# Altium footprint library Custom.PcbLib: 446 footprints (part 12 of 28)
Each footprint in its own frame and in the unit in brackets; x right, y up, seen from the top. Pads: shape width x height; smd on the part's side, far side on the other; paste and mask are expansions set on the pad; w line width, h text height; cw(c..) or ccw(c..) is an arc to the next point about the centre after c.
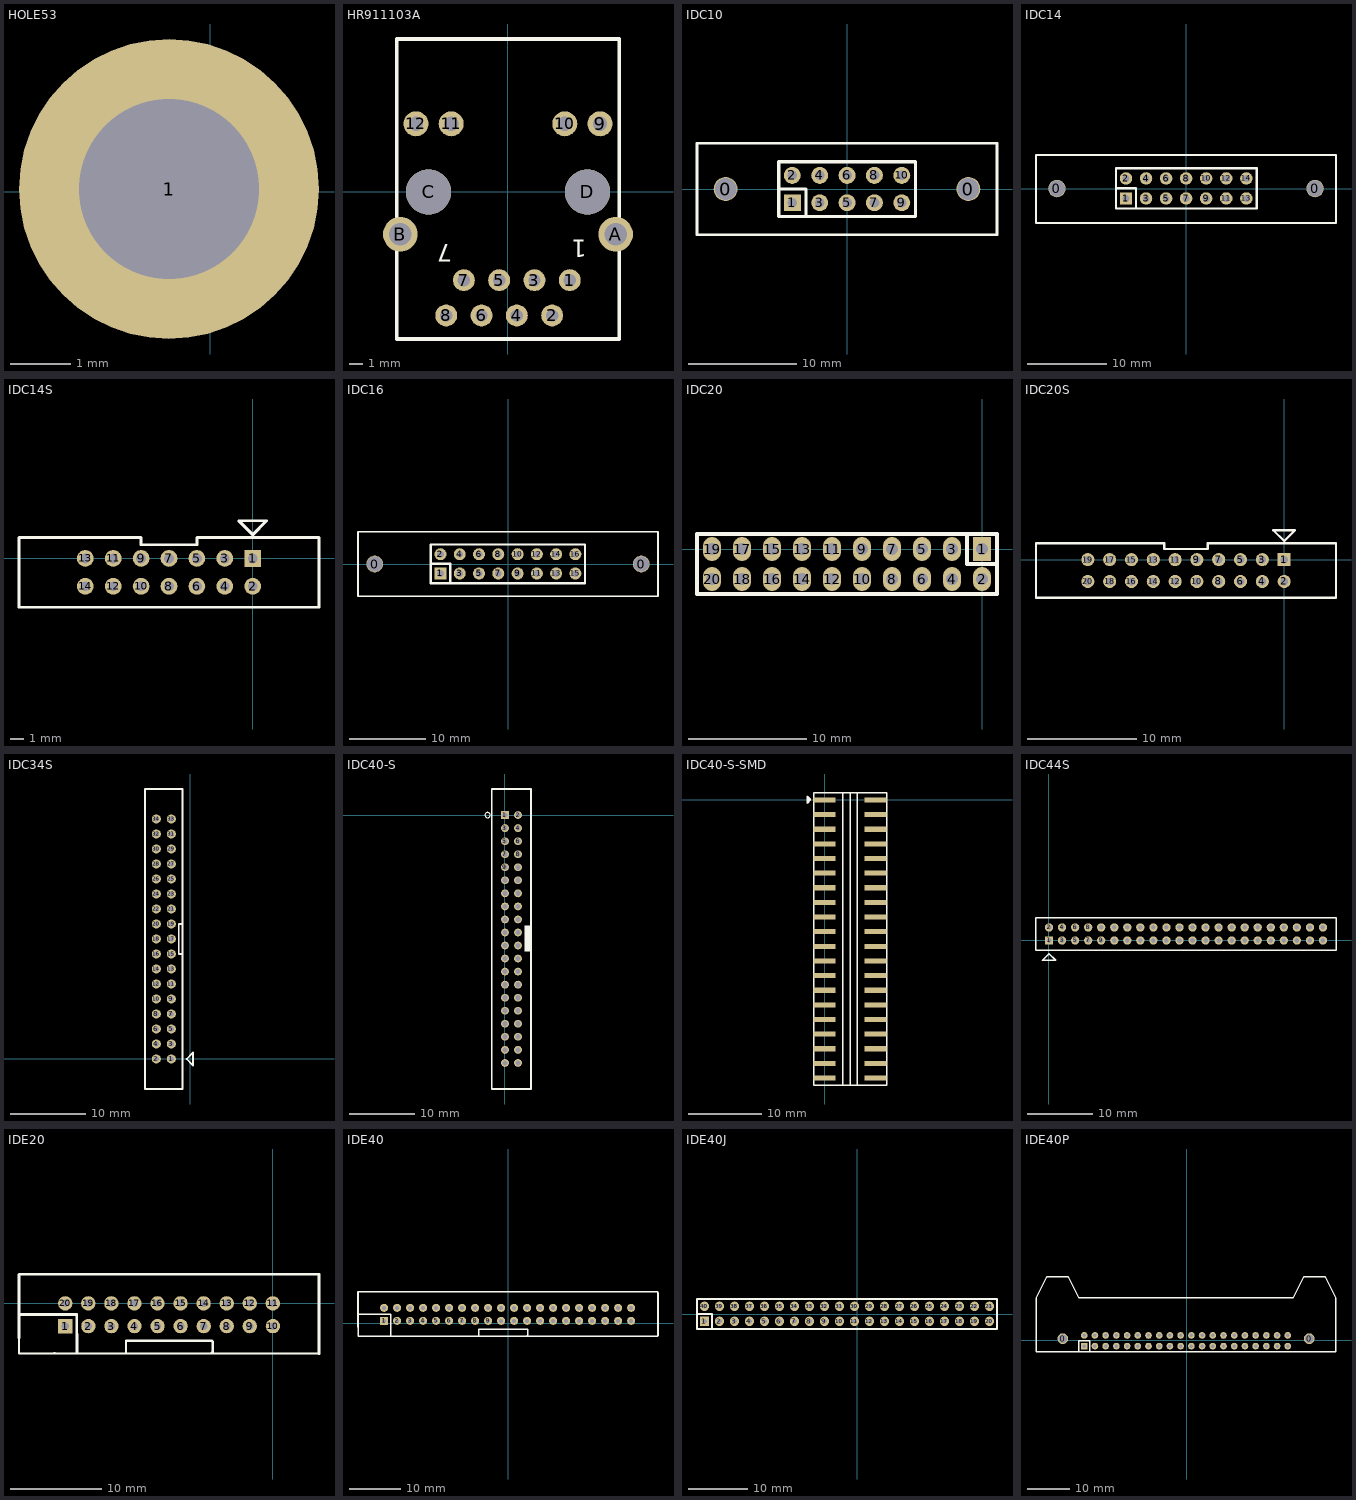
[diagram p11: the footprints below, top view; thin cyan lines are the x and y axes]

## HOLE53 [mm]
pads (1):
  round 5 hole 3: 1(-0.687,0.047)

## HR911103A [mm]
pads (16):
  round 1.575 hole 0.889: 1(4.449,-6.345) 2(3.179,-8.885) 3(1.909,-6.345) 4(0.639,-8.885) 5(-0.631,-6.345) 6(-1.901,-8.885) 7(-3.171,-6.345) 8(-4.441,-8.885)
  round 1.8 hole 1.02: 9(6.629,4.905) 10(4.089,4.905) 11(-4.081,4.905) 12(-6.621,4.905)
  round 2.5 hole 1.63: A(7.749,-3.045) B(-7.741,-3.045)
  round 3.25 hole 3.25: C(-5.711,0.005) D(5.719,0.005)
Top Overlay:
  lines w0.254: -7.996,-10.578 -7.996,11.005 8.004,11.005 8.004,-10.578 -7.996,-10.578
  text "1" at 5.664,-3.446 h1.27
  text "7" at -3.995,-3.778 h1.27

## IDC10 [mm]
pads (12):
  round 2.2 hole 2: 0(-11.27,0) 0(11.27,0)
  rect 1.575x1.575 hole 0.9: 1(-5.075,-1.275)
  round 1.575 hole 0.9: 2(-5.075,1.265) 3(-2.535,-1.275) 4(-2.535,1.265) 5(0.005,-1.275) 6(0.005,1.265) 7(2.545,-1.275) 8(2.545,1.265) 9(5.085,-1.275) 10(5.085,1.265)
Top Overlay:
  lines w0.254: -13.92,-4.25 -13.92,4.25 13.92,4.25 13.92,-4.25 -13.92,-4.25
  lines w0.305: -6.345,-0.005 -3.805,-0.005 -3.805,-2.545 ; -6.345,-2.545 6.355,-2.545 6.355,2.535 -6.345,2.535 -6.345,-2.545

## IDC14 [mm]
pads (16):
  round 2.2 hole 2: 0(-16.35,0) 0(16.35,0)
  rect 1.575x1.575 hole 0.9: 1(-7.601,-1.25)
  round 1.575 hole 0.9: 2(-7.601,1.29) 3(-5.061,-1.25) 4(-5.061,1.29) 5(-2.521,-1.25) 6(-2.521,1.29) 7(0.019,-1.25) 8(0.019,1.29) 9(2.559,-1.25) 10(2.559,1.29) 11(5.099,-1.25) 12(5.099,1.29) 13(7.639,-1.25) 14(7.639,1.29)
Top Overlay:
  lines w0.254: -19,-4.35 -19,4.25 19,4.25 19,-4.35 -19,-4.35
  lines w0.305: -8.871,0.02 -6.331,0.02 -6.331,-2.52 ; 8.979,-2.52 8.979,2.56 ; 8.983,-2.515 -8.871,-2.52 -8.871,2.56 8.983,2.57

## IDC14S [mm]
pads (14):
  rect 1.2x1.2 hole 0.7: 1(-0.005,0.001)
  round 1.2 hole 0.7: 2(-0.005,-1.999) 3(-2.005,0.001) 4(-2.005,-1.999) 5(-4.005,0.001) 6(-4.005,-1.999) 7(-6.005,0.001) 8(-6.005,-1.999) 9(-8.005,0.001) 10(-8.005,-1.999) 11(-10.005,0.001) 12(-10.005,-1.999) 13(-12.005,0.001) 14(-12.005,-1.999)
Top Overlay:
  lines w0.2: -16.755,-3.499 4.745,-3.499 4.745,1.501 -4.005,1.501 -4.005,0.976 -8.005,0.976 -8.005,1.501 -16.755,1.501 -16.755,-3.499 ; -1.005,2.701 0.995,2.701 -0.005,1.701 -1.005,2.701

## IDC16 [mm]
pads (18):
  round 2.2 hole 2: 0(-17.57,0) 0(17.57,0)
  rect 1.575x1.575 hole 0.9: 1(-8.9,-1.25)
  round 1.575 hole 0.9: 2(-8.9,1.29) 3(-6.36,-1.25) 4(-6.36,1.29) 5(-3.82,-1.25) 6(-3.82,1.29) 7(-1.28,-1.25) 8(-1.28,1.29) 9(1.26,-1.25) 10(1.26,1.29) 11(3.8,-1.25) 12(3.8,1.29) 13(6.34,-1.25) 14(6.34,1.29) 15(8.88,-1.25) 16(8.88,1.29)
Top Overlay:
  lines w0.254: 19.765,-4.25 19.765,4.25 ; 19.77,-4.25 -19.77,-4.25 -19.77,4.25 19.77,4.25
  lines w0.305: -10.17,0.02 -7.63,0.02 -7.63,-2.52 ; -10.17,-2.52 -10.17,2.56 10.15,2.56 10.15,-2.52 -10.17,-2.52

## IDC20 [mil]
pads (20):
  rect 60x80 hole 40: 1(0,0)
  oval 60x80 hole 40: 2(0,-100) 3(-100,0) 4(-100,-100) 5(-200,0) 6(-200,-100) 7(-300,0) 8(-300,-100) 9(-400,0) 10(-400,-100) 11(-500,0) 12(-500,-100) 13(-600,0) 14(-600,-100) 15(-700,0) 16(-700,-100) 17(-800,0) 18(-800,-100) 19(-900,0) 20(-900,-100)
Top Overlay:
  lines w12: -50,50 -50,-50 50,-50 ; -950,-150 50,-150 50,50 -950,50 -950,-150

## IDC20S [mm]
pads (20):
  rect 1.2x1.2 hole 0.7: 1(-0.008,0.023)
  round 1.2 hole 0.7: 2(-0.008,-1.977) 3(-2.008,0.023) 4(-2.008,-1.977) 5(-4.008,0.023) 6(-4.008,-1.977) 7(-6.008,0.023) 8(-6.008,-1.977) 9(-8.008,0.023) 10(-8.008,-1.977) 11(-10.008,0.023) 12(-10.008,-1.977) 13(-12.008,0.023) 14(-12.008,-1.977) 15(-14.008,0.023) 16(-14.008,-1.977) 17(-16.008,0.023) 18(-16.008,-1.977) 19(-18.008,0.023) 20(-18.008,-1.977)
Top Overlay:
  lines w0.2: -22.758,-3.477 -22.758,1.523 -11.008,1.523 -11.008,0.998 -7.008,0.998 -7.008,1.523 4.742,1.523 4.742,-3.477 -22.758,-3.477 ; -1.008,2.723 -0.008,1.723 0.992,2.723 -1.008,2.723

## IDC34S [mm]
pads (34):
  round 1.2 hole 0.7: 1(-2.506,0.004) 2(-4.506,0.004) 3(-2.506,2.004) 4(-4.506,2.004) 5(-2.506,4.004) 6(-4.506,4.004) 7(-2.506,6.004) 8(-4.506,6.004) 9(-2.506,8.004) 10(-4.506,8.004) 11(-2.506,10.004) 12(-4.506,10.004) 13(-2.506,12.004) 14(-4.506,12.004) 15(-2.506,14.004) 16(-4.506,14.004) 17(-2.506,16.004) 18(-4.506,16.004) 19(-2.506,18.004) 20(-4.506,18.004) 21(-2.506,20.004) 22(-4.506,20.004) 23(-2.506,22.004) 24(-4.506,22.004) 25(-2.506,24.004) 26(-4.506,24.004) 27(-2.506,26.004) 28(-4.506,26.004) 29(-2.506,28.004) 30(-4.506,28.004) 31(-2.506,30.004) 32(-4.506,30.004) 33(-2.506,32.004) 34(-4.506,32.004)
Top Overlay:
  lines w0.254: -6.007,-4.003 -1.007,-4.003 ; -6.006,-4.003 -6.006,35.997 -1.006,35.997 -1.006,-4.003 ; -1.006,13.996 -1.514,13.996 -1.514,17.996 -1.006,17.996 ; -0.482,-0.003 0.368,0.847 0.368,-0.853 -0.482,-0.003

## IDC40-S [mm]
pads (40):
  rect 1.2x1.2 hole 0.8: 1(0,0)
  round 1.2 hole 0.8: 2(2,0) 3(0,-2) 4(2,-2) 5(0,-4) 6(2,-4) 7(0,-6) 8(2,-6) 9(0,-8) 10(2,-8) 11(0,-10) 12(2,-10) 13(0,-12) 14(2,-12) 15(0,-14) 16(2,-14) 17(0,-16) 18(2,-16) 19(0,-18) 20(2,-18) 21(0,-20) 22(2,-20) 23(0,-22) 24(2,-22) 25(0,-24) 26(2,-24) 27(0,-26) 28(2,-26) 29(0,-28) 30(2,-28) 31(0,-30) 32(2,-30) 33(0,-32) 34(2,-32) 35(0,-34) 36(2,-34) 37(0,-36) 38(2,-36) 39(0,-38) 40(2,-38)
Top Overlay:
  circle w0.127: c-2.667,0 r0.402
  rectangle: 3,-20.923 4,-18.923
  rectangle: 2.997,-18.923 3.997,-16.923
  lines w0.254: -2,-40 -2,-42 3.918,-42 ; -2,-39.935 -2,-28 -2,4 -1,4 3,4 4,4 4,-28 4,-39.983 3.983,-40 ; 4,-42 4,-40

## IDC40-S-SMD [mm]
pads (40):
  rect 3x0.7 smd: 1(0,0) 2(7,0) 3(0,-2) 4(7,-2) 5(0,-4) 6(7,-4) 7(0,-6) 8(7,-6) 9(0,-8) 10(7,-8) 11(0,-10) 12(7,-10) 13(0,-12) 14(7,-12) 15(0,-14) 16(7,-14) 17(0,-16) 18(7,-16) 19(0,-18) 20(7,-18) 21(0,-20) 22(7,-20) 23(0,-22) 24(7,-22) 25(0,-24) 26(7,-24) 27(0,-26) 28(7,-26) 29(0,-28) 30(7,-28) 31(0,-30) 32(7,-30) 33(0,-32) 34(7,-32) 35(0,-34) 36(7,-34) 37(0,-36) 38(7,-36) 39(0,-38) 40(7,-38)
Top Overlay:
  lines w0.2: -2.35,-0.125 -2.078,-0.125 -2.064,-0.139 -2.064,-0.136 -2.35,0.15 -2.075,0.15 -1.925,0 ; 2.5,-39 2.5,1 ; 3.5,-39 3.5,1 ; 4.5,-39 4.5,0.975 ; -1.925,0 -1.925,0.075 -2.35,0.5 -2.35,-0.425 -1.925,0 ; -1.5,-39 8.5,-39 8.5,1 -1.5,1 -1.5,-39

## IDC44S [mm]
pads (44):
  rect 1.27x1.27 hole 0.7: 1(0.011,-0.004)
  round 1.27 hole 0.7: 2(0.011,1.996) 3(2.011,-0.004) 4(2.011,1.996) 5(4.011,-0.004) 6(4.011,1.996) 7(6.011,-0.004) 8(6.011,1.996) 9(8.011,-0.004) 10(8.011,1.996) 11(10.011,-0.004) 12(10.011,1.996) 13(12.011,-0.004) 14(12.011,1.996) 15(14.011,-0.004) 16(14.011,1.996) 17(16.011,-0.004) 18(16.011,1.996) 19(18.011,-0.004) 20(18.011,1.996) 21(20.011,-0.004) 22(20.011,1.996) 23(22.011,-0.004) 24(22.011,1.996) 25(24.011,-0.004) 26(24.011,1.996) 27(26.011,-0.004) 28(26.011,1.996) 29(28.011,-0.004) 30(28.011,1.996) 31(30.011,-0.004) 32(30.011,1.996) 33(32.011,-0.004) 34(32.011,1.996) 35(34.011,-0.004) 36(34.011,1.996) 37(36.011,-0.004) 38(36.011,1.996) 39(38.011,-0.004) 40(38.011,1.996) 41(40.011,-0.004) 42(40.011,1.996) 43(42.011,-0.004) 44(42.011,1.996)
Top Overlay:
  lines w0.2: -1.989,-1.504 44.011,-1.504 44.011,3.496 -1.989,3.496 -1.989,-1.504
  lines w0.254: -1.005,-3.052 1.027,-3.052 0.011,-2.036 -1.005,-3.052

## IDE20 [mil]
pads (20):
  rect 62x62 hole 31.94: 1(-899.87,-100.13)
  round 62 hole 31.94: 2(-799.87,-100.13) 3(-699.87,-100.13) 4(-599.87,-100.13) 5(-499.87,-100.13) 6(-399.87,-100.13) 7(-299.87,-100.13) 8(-199.87,-100.13) 9(-99.87,-100.13) 10(0.13,-100.13) 11(-0.13,-1.37) 12(-100.13,-1.37) 13(-200.13,-1.37) 14(-300.13,-1.37) 15(-400.13,-1.37) 16(-500.13,-1.37) 17(-600.13,-1.37) 18(-700.13,-1.37) 19(-800.13,-1.37) 20(-900.13,-1.37)
Top Overlay:
  lines w10: -1100.5,-149 -1100.5,-218 -1099.5,-219 -951,-219 ; -637,-218 -637,-163.5 -264,-163.5 -260,-167.5 -260,-210 -264.5,-214.5
  lines w12: -1100.5,-151 -1100.5,120.5 ; -1100.5,124 200,125 ; -1100,-49.5 -849.87,-50.13 -849.5,-214 ; -947,-218 200,-220 ; 200,-213 200,120

## IDE40 [mil]
pads (40):
  rect 62x62 hole 31.94: 1(-952.87,17.87)
  round 62 hole 31.94: 2(-852.87,17.87) 3(-752.87,17.87) 4(-652.87,17.87) 5(-552.87,17.87) 6(-452.87,17.87) 7(-352.87,17.87) 8(-252.87,17.87) 9(-152.87,17.87) 10(-52.87,17.87) 11(47.13,17.87) 12(147.13,17.87) 13(247.13,17.87) 14(347.13,17.87) 15(447.13,17.87) 16(547.13,17.87) 17(647.13,17.87) 18(747.13,17.87) 19(847.13,17.87) 20(947.13,17.87) 21(947.13,117.87) 22(847.13,117.87) 23(747.13,117.87) 24(647.13,117.87) 25(547.13,117.87) 26(447.13,117.87) 27(347.13,117.87) 28(247.13,117.87) 29(147.13,117.87) 30(47.13,117.87) 31(-52.87,117.87) 32(-152.87,117.87) 33(-252.87,117.87) 34(-352.87,117.87) 35(-452.87,117.87) 36(-552.87,117.87) 37(-652.87,117.87) 38(-752.87,117.87) 39(-852.87,117.87) 40(-952.87,117.87)
Top Overlay:
  lines w10: -1153.5,-31 -1153.5,-100 -1152.5,-101 -1004,-101 ; -226,-100 -226,-45.5 147,-45.5 151,-49.5 151,-92 146.5,-96.5
  lines w12: -1153.5,-33 -1153.5,238.5 ; -1153.5,242 1152,240.5 ; -1153,68.5 -902.87,67.87 -902.5,-96 ; -1005,-100 1150,-100 ; 1153.5,-97.5 1153.5,235.5

## IDE40J [mil]
pads (40):
  rect 62x62 hole 31.94: 1(-1018.87,-48.63)
  round 62 hole 31.94: 2(-918.87,-48.63) 3(-818.87,-48.63) 4(-718.87,-48.63) 5(-618.87,-48.63) 6(-518.87,-48.63) 7(-418.87,-48.63) 8(-318.87,-48.63) 9(-218.87,-48.63) 10(-118.87,-48.63) 11(-18.87,-48.63) 12(81.13,-48.63) 13(181.13,-48.63) 14(281.13,-48.63) 15(381.13,-48.63) 16(481.13,-48.63) 17(581.13,-48.63) 18(681.13,-48.63) 19(781.13,-48.63) 20(881.13,-48.63) 21(881.13,51.37) 22(781.13,51.37) 23(681.13,51.37) 24(581.13,51.37) 25(481.13,51.37) 26(381.13,51.37) 27(281.13,51.37) 28(181.13,51.37) 29(81.13,51.37) 30(-18.87,51.37) 31(-118.87,51.37) 32(-218.87,51.37) 33(-318.87,51.37) 34(-418.87,51.37) 35(-518.87,51.37) 36(-618.87,51.37) 37(-718.87,51.37) 38(-818.87,51.37) 39(-918.87,51.37) 40(-1018.87,51.37)
Top Overlay:
  lines w12: -1068.5,0 -968.5,0 -968.5,-100 ; -1068.5,-100 -1068.5,100 931.5,100 931.5,-100 -1068.5,-100

## IDE40P [mil]
pads (42):
  round 100 hole 78.74: 0(-1154.84,16.42) 0(1145.16,16.42)
  rect 62x62 hole 31.94: 1(-954.84,-53.58)
  round 62 hole 31.94: 2(-854.84,-53.58) 3(-754.84,-53.58) 4(-654.84,-53.58) 5(-554.84,-53.58) 6(-454.84,-53.58) 7(-354.84,-53.58) 8(-254.84,-53.58) 9(-154.84,-53.58) 10(-54.84,-53.58) 11(45.16,-53.58) 12(145.16,-53.58) 13(245.16,-53.58) 14(345.16,-53.58) 15(445.16,-53.58) 16(545.16,-53.58) 17(645.16,-53.58) 18(745.16,-53.58) 19(845.16,-53.58) 20(945.16,-53.58) 21(945.16,46.42) 22(845.16,46.42) 23(745.16,46.42) 24(645.16,46.42) 25(545.16,46.42) 26(445.16,46.42) 27(345.16,46.42) 28(245.16,46.42) 29(145.16,46.42) 30(45.16,46.42) 31(-54.84,46.42) 32(-154.84,46.42) 33(-254.84,46.42) 34(-354.84,46.42) 35(-454.84,46.42) 36(-554.84,46.42) 37(-654.84,46.42) 38(-754.84,46.42) 39(-854.84,46.42)
  round 61.81 hole 31.93: 40(-954.84,46.42)
Top Overlay:
  lines w12: -1004.84,-103.58 -1004.84,-3.58 -904.84,-3.58 -904.84,-103.58 ; -1404.84,-103.58 -1404.84,396.42 -1304.84,596.42 -1104.84,596.42 -1004.84,396.42 995.16,396.42 1095.16,596.42 1295.16,596.42 1395.16,396.42 1395.16,-103.58 -1404.84,-103.58